# Altium footprint library 2.54_Connector_x6.PcbLib: 1 footprints
Each footprint in its own frame and in the unit in brackets; x right, y up, seen from the top. Pads: shape width x height; smd on the part's side, far side on the other; paste and mask are expansions set on the pad; w line width, h text height; cw(c..) or ccw(c..) is an arc to the next point about the centre after c.
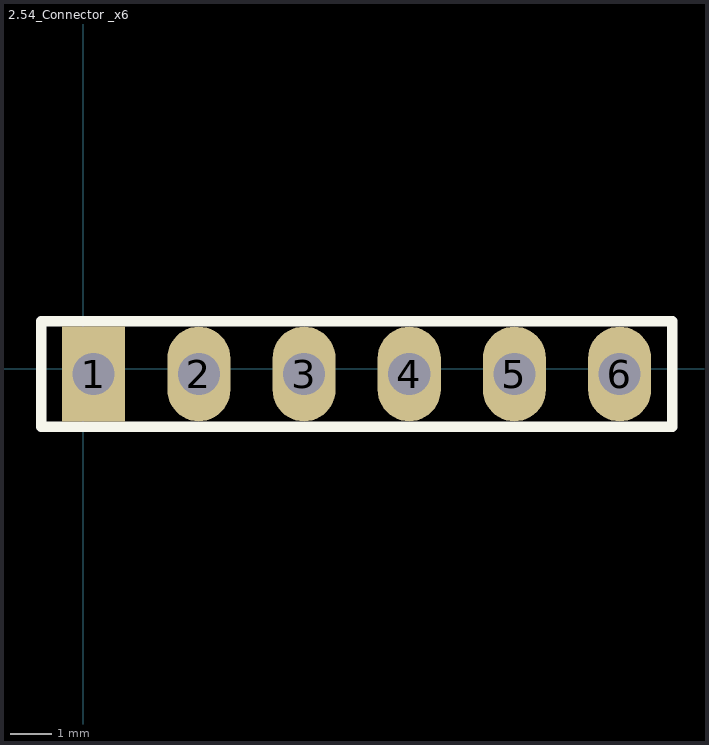
[diagram p0: the footprint, top view; thin cyan lines are the x and y axes]

## 2.54_Connector _x6 [mil]
pads (6):
  rect 60x90 hole 40: 1(10,-5)
  oval 60x90 hole 40: 2(110,-5) 3(210,-5) 4(310,-5) 5(410,-5) 6(510,-5)
Top Overlay:
  lines w10: -40,-55 560,-55 560,45 -40,45 -40,-55
Bottom Overlay:
  lines w10: 60,-55 60,45 ; 160,-55 160,45 ; 257.5,-55 257.5,45 ; 360,-55 360,45 ; 460,-55 460,45 ; -45,-55 560,-55 560,45 -45,45 -45,-55
3D body "2.54.connector.STEP": height 107.86, standoff -345.35, extent -40,-52.24 560,42.24